# Altium schematic symbol library chs-01ta.SchLib: 1 symbol
Pins are listed as number, name and electrical type; pins without a type are passive.

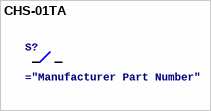
[diagram p0: symbol CHS-01TA]

## CHS-01TA
designator S?
DIP Switch, Slide, SPST, Flush, Recessed, 6VDC, 100mA, CHS Series | Nidec Components CHS-01TA
pins: 1, 2